# Altium integrated library Molex FFC - FPC Connectors (SMT).IntLib: 638 symbols (part 16 of 20)
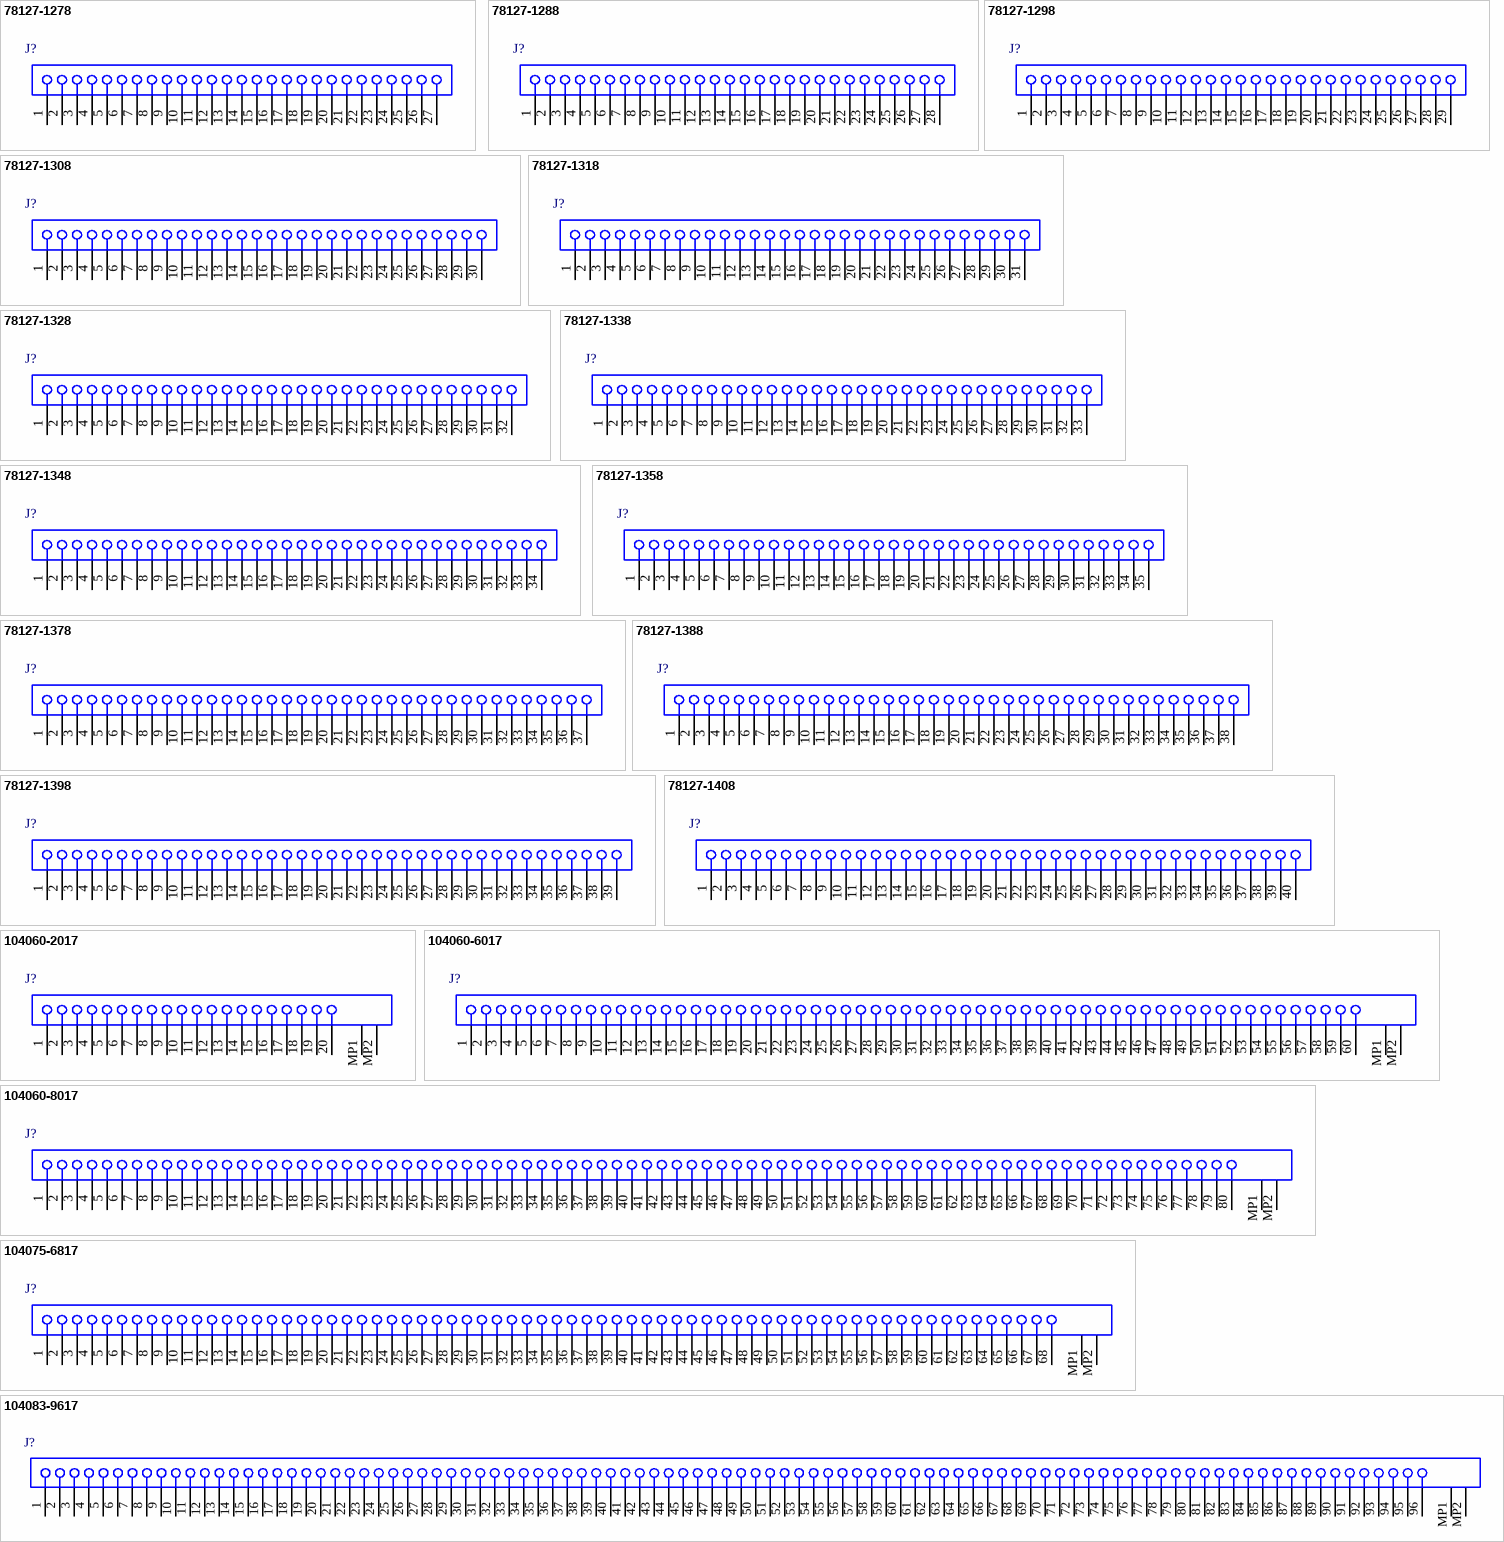
[diagram p36: symbols 78127-1278 to 104083-9617]

## 104083-9617
designator J?
0.5 mm Pitch Easy-On(TM) Type FPC/FFC Connector, 1.5 mm Mated Height, Right Angle, ZIF, SMT, Bottom Contact, 96 Circuits, -25 to 85 degC, ELV and RoHS Compliant, Tape and Reel; Manufacturer: Molex; PartNumber: 104083-9617; Circuits (Loaded): 96; Contact Position: Top; Current (Max per Contact): 0.5A; Entry Angle: 90degrees Angle (Side Entry); Mated Height: 1.50mm; Material - Metal: Phosphor Bronze; Material - Plating Mating: Gold over Nickel; PCB Retention: None; Pitch - Mating Interface: 0.50mm; Polarized to PCB: No; Voltage (Max): 50V; PackageVersion: Rev. A, 04/2012; PackageReference: 104083-9617; PackageDescription: 96-Lead FPC/FFC Connector, Pitch 0.5 mm; Circuits (maximum): 96; Number of Rows: 1; Orientation: Right Angle; Packing: Tape and Reel; RoHS: TRUE; Stackable: No; Mounting Technology: Surface Mount; ComponentLink1Description: Manufacturer URL; ComponentLink1URL: http://www.molex.com/molex/index.jsp; ComponentLink2Description: Datasheet; ComponentLink2URL: http://www.molex.com/webdocs/datasheets/pdf/en-us/1040839617_FFC_FPC_CONNECTORS.pdf; ComponentLink3Description: Package Specification; ComponentLink3URL: http://www.molex.com/pdm_docs/sd/1040839617_sd.pdf
footprint MOLX-104083-9617 (FPC/FFC Connector, 96-Leads, Right Angle, Pitch 0.5 mm, Mated Height 1.5 mm, SMT)
pins: 1, 2, 3, 4, 5, 6, 7, 8, 9, 10, 11, 12, 13, 14, 15, 16, 17, 18, 19, 20, 21, 22, 23, 24, 25, 26, 27, 28, 29, 30, 31, 32, 33, 34, 35, 36, 37, 38, 39, 40, 41, 42, 43, 44, 45, 46, 47, 48, 49, 50, 51, 52, 53, 54, 55, 56, 57, 58, 59, 60, 61, 62, 63, 64, 65, 66, 67, 68, 69, 70, 71, 72, 73, 74, 75, 76, 77, 78, 79, 80, 81, 82, 83, 84, 85, 86, 87, 88, 89, 90, 91, 92, 93, 94, 95, 96, MP1, MP2

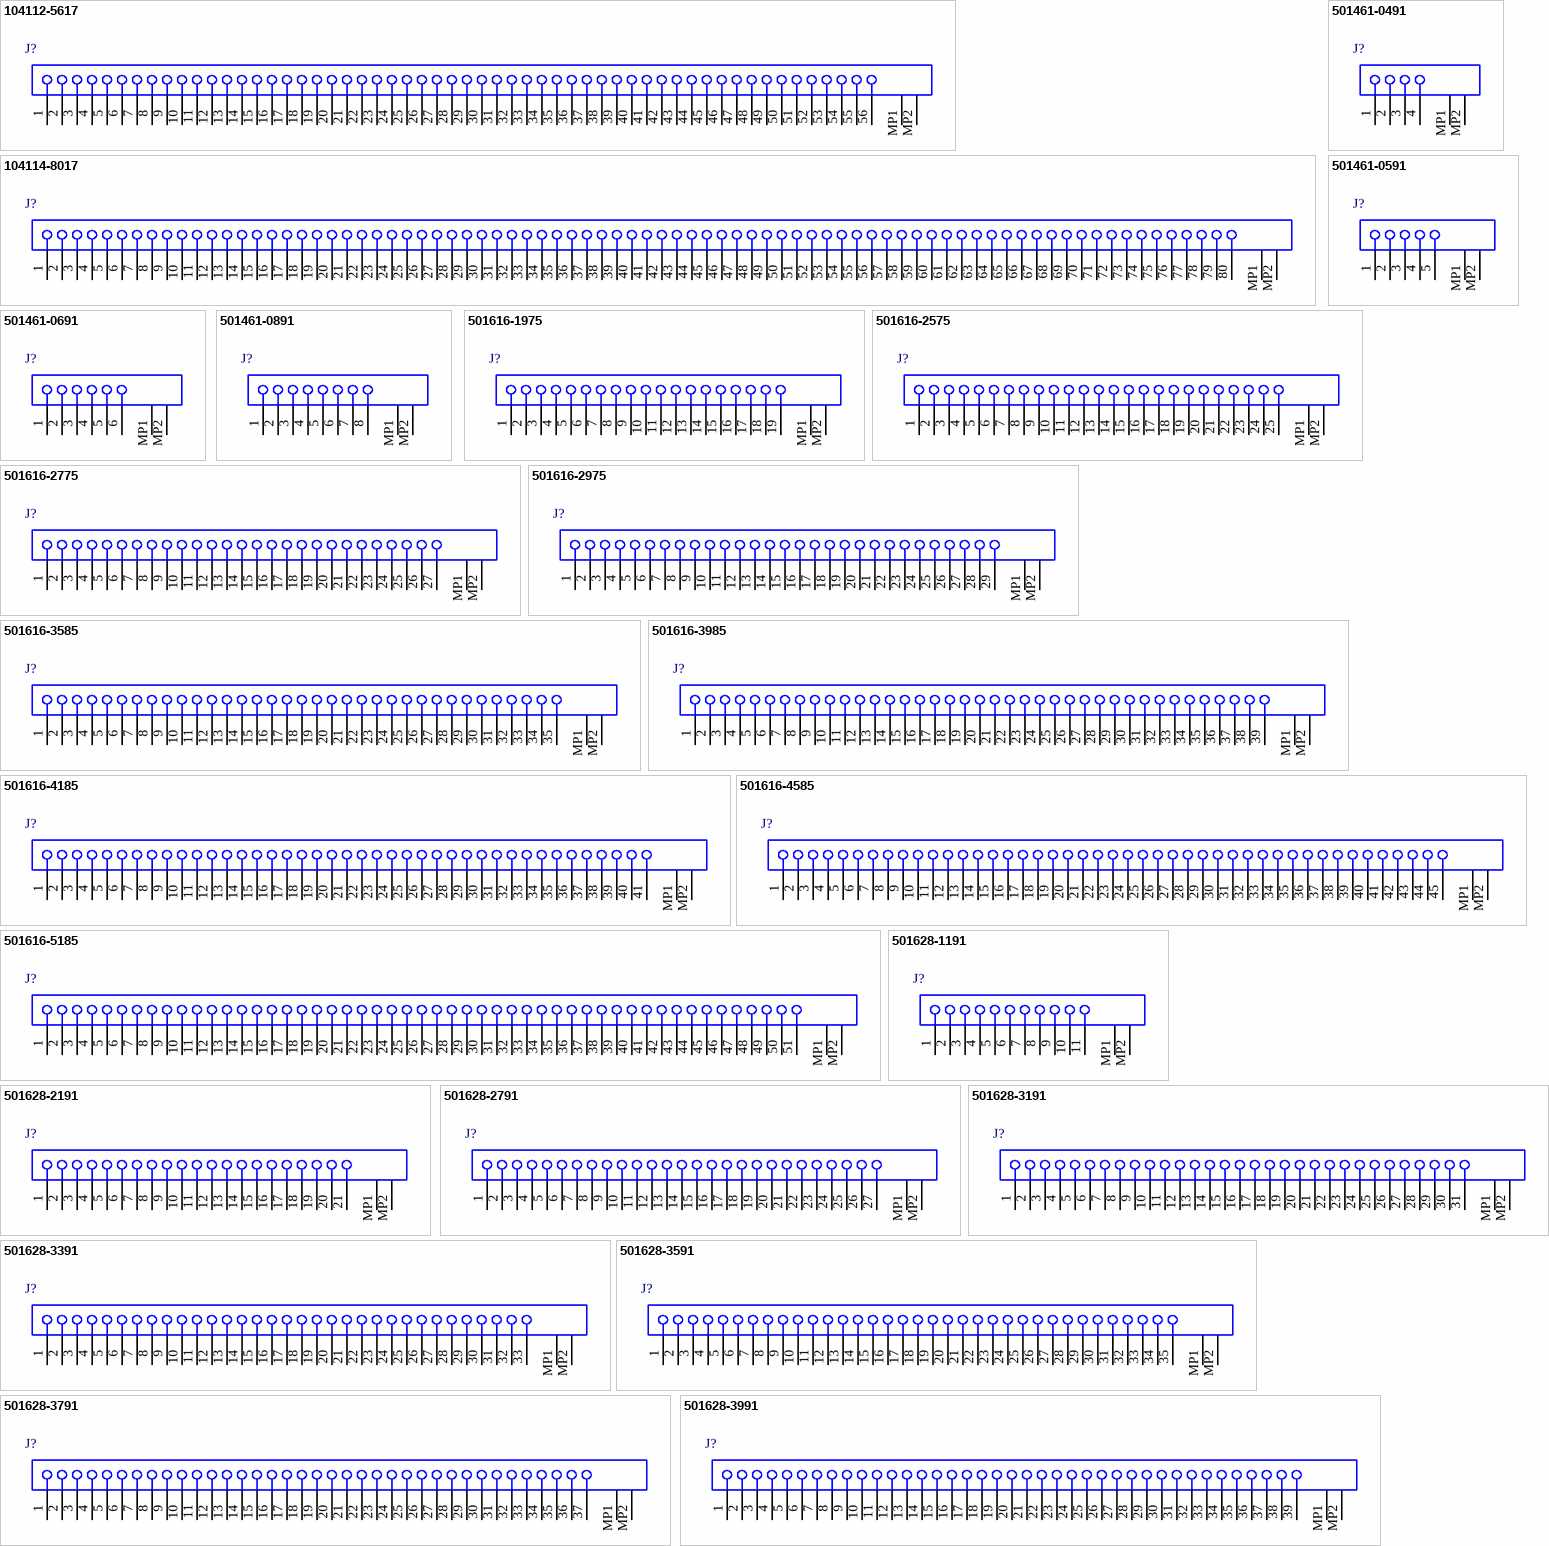
[diagram p15: symbols 104112-5617 to 501628-3991]

## 104112-5617
designator J?
0.5 mm Pitch Easy-On(TM) Type FPC/FFC Connector, 1.5 mm Mated Height, Right Angle, ZIF, SMT, Bottom Contact, 56 Circuits, -25 to 85 degC, ELV and RoHS Compliant, Tape and Reel; Manufacturer: Molex; PartNumber: 104112-5617; Circuits (Loaded): 56; Contact Position: Top; Current (Max per Contact): 0.5A; Entry Angle: 90degrees Angle (Side Entry); Mated Height: 1.50mm; Material - Metal: Phosphor Bronze; Material - Plating Mating: Gold over Nickel; PCB Retention: None; Pitch - Mating Interface: 0.50mm; Polarized to PCB: No; Voltage (Max): 50V; PackageVersion: Rev. A, 08/2012; PackageReference: 104112-5617; PackageDescription: 56-Lead FPC/FFC Connector, Pitch 0.5 mm; Circuits (maximum): 56; Number of Rows: 1; Orientation: Right Angle; Packing: Tape and Reel; RoHS: TRUE; Stackable: No; Mounting Technology: Surface Mount; ComponentLink1Description: Manufacturer URL; ComponentLink1URL: http://www.molex.com/molex/index.jsp; ComponentLink2Description: Datasheet; ComponentLink2URL: http://www.molex.com/webdocs/datasheets/pdf/en-us/1041125617_FFC_FPC_CONNECTORS.pdf; ComponentLink3Description: Package Specification; ComponentLink3URL: http://www.molex.com/pdm_docs/sd/1041125617_sd.pdf
footprint MOLX-104112-5617 (FPC/FFC Connector, 56-Leads, Right Angle, Pitch 0.5 mm, Mated Height 1.5 mm, SMT)
pins: 1, 2, 3, 4, 5, 6, 7, 8, 9, 10, 11, 12, 13, 14, 15, 16, 17, 18, 19, 20, 21, 22, 23, 24, 25, 26, 27, 28, 29, 30, 31, 32, 33, 34, 35, 36, 37, 38, 39, 40, 41, 42, 43, 44, 45, 46, 47, 48, 49, 50, 51, 52, 53, 54, 55, 56, MP1, MP2

## 104114-8017
designator J?
0.5 mm Pitch Easy-On(TM) Type FPC/FFC Connector, 1.5 mm Mated Height, Right Angle, ZIF, SMT, Bottom Contact, 80 Circuits, -25 to 85 degC, ELV and RoHS Compliant, Tape and Reel; Manufacturer: Molex; PartNumber: 104114-8017; Circuits (Loaded): 80; Contact Position: Top; Current (Max per Contact): 0.5A; Entry Angle: 90degrees Angle (Side Entry); Mated Height: 1.50mm; Material - Metal: Phosphor Bronze; Material - Plating Mating: Gold over Nickel; PCB Retention: None; Pitch - Mating Interface: 0.50mm; Polarized to PCB: No; Voltage (Max): 50V; PackageVersion: Rev. A, 12/2011; PackageReference: 104114-8017; PackageDescription: 80-Lead FPC/FFC Connector, Pitch 0.5 mm; Circuits (maximum): 80; Number of Rows: 1; Orientation: Right Angle; Packing: Tape and Reel; RoHS: TRUE; Stackable: No; Mounting Technology: Surface Mount; ComponentLink1Description: Manufacturer URL; ComponentLink1URL: http://www.molex.com/molex/index.jsp; ComponentLink2Description: Datasheet; ComponentLink2URL: http://www.molex.com/webdocs/datasheets/pdf/en-us/1041148017_FFC_FPC_CONNECTORS.pdf; ComponentLink3Description: Package Specification; ComponentLink3URL: http://www.molex.com/pdm_docs/sd/1041148017_sd.pdf
footprint MOLX-104114-8017 (FPC/FFC Connector, 80-Leads, Right Angle, Pitch 0.5 mm, Mated Height 1.5 mm, SMT)
pins: 1, 2, 3, 4, 5, 6, 7, 8, 9, 10, 11, 12, 13, 14, 15, 16, 17, 18, 19, 20, 21, 22, 23, 24, 25, 26, 27, 28, 29, 30, 31, 32, 33, 34, 35, 36, 37, 38, 39, 40, 41, 42, 43, 44, 45, 46, 47, 48, 49, 50, 51, 52, 53, 54, 55, 56, 57, 58, 59, 60, 61, 62, 63, 64, 65, 66, 67, 68, 69, 70, 71, 72, 73, 74, 75, 76, 77, 78, 79, 80, MP1, MP2

## 501461-0491
designator J?
0.5 mm Pitch Easy-On(TM) Type FPC Connector, 0.8 mm Mated Height, Right Angle, SMT, Bottom Contact, 4 Circuits, -40 to 85 degC, ELV and RoHS Compliant, Tape and Reel; Manufacturer: Molex; PartNumber: 501461-0491; Circuits (Loaded): 4; Current (Max per Contact): 0.3A; Durability (mating cycles max): 20; Entry Angle: 90degrees Angle; Mated Height: 0.80mm; Material - Metal: Copper Alloy; Material - Plating Mating: Gold; PCB Locator: No; PCB Retention: Yes; Pitch - Mating Interface: 0.50mm; Voltage (Max): 50V AC (RMS)/DC; PackageVersion: Rev. B, 01/2014; PackageReference: 501461-0491; PackageDescription: 4-Lead FPC Connector, Pitch 0.5 mm; Contact Position: Bottom; Material - Plating Termination: Gold; Number of Rows: 1; Orientation: Right Angle; Packing: Tape and Reel; Polarized to PCB: Yes; RoHS: TRUE; Stackable: No; Mounting Technology: Surface Mount; ComponentLink1Description: Manufacturer URL; ComponentLink1URL: http://www.molex.com/molex/index.jsp; ComponentLink2Description: Datasheet; ComponentLink2URL: http://www.molex.com/webdocs/datasheets/pdf/en-us/5014610491_FFC_FPC_CONNECTORS.pdf; ComponentLink3Description: Package Specification; ComponentLink3URL: http://www.molex.com/pdm_docs/sd/5014610491_sd.pdf
footprint MOLX-501461-0491 (FPC Connector, 4-Leads, Right Angle, Pitch 0.5 mm, Mated Height 0.8 mm, SMT)
pins: 1, 2, 3, 4, MP1, MP2

## 501461-0591
designator J?
0.5 mm Pitch Easy-On(TM) Type FPC Connector, 0.8 mm Mated Height, Right Angle, SMT, Bottom Contact, 5 Circuits, -40 to 85 degC, ELV and RoHS Compliant, Tape and Reel; Manufacturer: Molex; PartNumber: 501461-0591; Circuits (Loaded): 5; Current (Max per Contact): 0.3A; Durability (mating cycles max): 20; Entry Angle: 90degrees Angle; Mated Height: 0.80mm; Material - Metal: Copper Alloy; Material - Plating Mating: Gold; PCB Locator: No; PCB Retention: Yes; Pitch - Mating Interface: 0.50mm; Voltage (Max): 50V AC (RMS)/DC; PackageVersion: Rev. B, 01/2014; PackageReference: 501461-0591; PackageDescription: 5-Lead FPC Connector, Pitch 0.5 mm; Contact Position: Bottom; Material - Plating Termination: Gold; Number of Rows: 1; Orientation: Right Angle; Packing: Tape and Reel; Polarized to PCB: Yes; RoHS: TRUE; Stackable: No; Mounting Technology: Surface Mount; ComponentLink1Description: Manufacturer URL; ComponentLink1URL: http://www.molex.com/molex/index.jsp; ComponentLink2Description: Datasheet; ComponentLink2URL: http://www.molex.com/webdocs/datasheets/pdf/en-us/5014610591_FFC_FPC_CONNECTORS.pdf; ComponentLink3Description: Package Specification; ComponentLink3URL: http://www.molex.com/pdm_docs/sd/5014610591_sd.pdf
footprint MOLX-501461-0591 (FPC Connector, 5-Leads, Right Angle, Pitch 0.5 mm, Mated Height 0.8 mm, SMT)
pins: 1, 2, 3, 4, 5, MP1, MP2

## 501461-0691
designator J?
0.5 mm Pitch Easy-On(TM) Type FPC Connector, 0.8 mm Mated Height, Right Angle, SMT, Bottom Contact, 6 Circuits, -40 to 85 degC, ELV and RoHS Compliant, Tape and Reel; Manufacturer: Molex; PartNumber: 501461-0691; Circuits (Loaded): 6; Current (Max per Contact): 0.3A; Durability (mating cycles max): 20; Entry Angle: 90degrees Angle; Mated Height: 0.80mm; Material - Metal: Copper Alloy; Material - Plating Mating: Gold; PCB Locator: No; PCB Retention: Yes; Pitch - Mating Interface: 0.50mm; Voltage (Max): 50V AC (RMS)/DC; PackageVersion: Rev. B, 01/2014; PackageReference: 501461-0691; PackageDescription: 6-Lead FPC Connector, Pitch 0.5 mm; Contact Position: Bottom; Material - Plating Termination: Gold; Number of Rows: 1; Orientation: Right Angle; Packing: Tape and Reel; Polarized to PCB: Yes; RoHS: TRUE; Stackable: No; Mounting Technology: Surface Mount; ComponentLink1Description: Manufacturer URL; ComponentLink1URL: http://www.molex.com/molex/index.jsp; ComponentLink2Description: Datasheet; ComponentLink2URL: http://www.molex.com/webdocs/datasheets/pdf/en-us/5014610691_FFC_FPC_CONNECTORS.pdf; ComponentLink3Description: Package Specification; ComponentLink3URL: http://www.molex.com/pdm_docs/sd/5014610691_sd.pdf
footprint MOLX-501461-0691 (FPC Connector, 6-Leads, Right Angle, Pitch 0.5 mm, Mated Height 0.8 mm, SMT)
pins: 1, 2, 3, 4, 5, 6, MP1, MP2

## 501461-0891
designator J?
0.5 mm Pitch Easy-On(TM) Type FPC Connector, 0.8 mm Mated Height, Right Angle, SMT, Bottom Contact, 8 Circuits, -40 to 85 degC, ELV and RoHS Compliant, Tape and Reel; Manufacturer: Molex; PartNumber: 501461-0891; Circuits (Loaded): 8; Current (Max per Contact): 0.3A; Durability (mating cycles max): 20; Entry Angle: 90degrees Angle; Mated Height: 0.80mm; Material - Metal: Copper Alloy; Material - Plating Mating: Gold; PCB Locator: No; PCB Retention: Yes; Pitch - Mating Interface: 0.50mm; Voltage (Max): 50V AC (RMS)/DC; PackageVersion: Rev. B, 01/2014; PackageReference: 501461-0891; PackageDescription: 8-Lead FPC Connector, Pitch 0.5 mm; Contact Position: Bottom; Material - Plating Termination: Gold; Number of Rows: 1; Orientation: Right Angle; Packing: Tape and Reel; Polarized to PCB: Yes; RoHS: TRUE; Stackable: No; Mounting Technology: Surface Mount; ComponentLink1Description: Manufacturer URL; ComponentLink1URL: http://www.molex.com/molex/index.jsp; ComponentLink2Description: Datasheet; ComponentLink2URL: http://www.molex.com/webdocs/datasheets/pdf/en-us/5014610891_FFC_FPC_CONNECTORS.pdf; ComponentLink3Description: Package Specification; ComponentLink3URL: http://www.molex.com/pdm_docs/sd/5014610891_sd.pdf
footprint MOLX-501461-0891 (FPC Connector, 8-Leads, Right Angle, Pitch 0.5 mm, Mated Height 0.8 mm, SMT)
pins: 1, 2, 3, 4, 5, 6, 7, 8, MP1, MP2

## 501616-1975
designator J?
0.3 mm Pitch Easy-On(TM) Type FPC Connector, 1.1 mm Mated Height, Right Angle, ZIF, SMT, Top Contact, 19 Circuits, -40 to 85 degC, ELV and RoHS Compliant, Tape and Reel; Manufacturer: Molex; PartNumber: 501616-1975; Circuits (Loaded): 19; Current (Max per Contact): 0.2A; Durability (mating cycles max): 10; Entry Angle: 90degrees Angle; Mated Height: 1.10mm; Material - Metal: Copper Alloy; Material - Plating Mating: Gold; PCB Locator: No; PCB Retention: Yes; Pitch - Mating Interface: 0.30mm; Voltage (Max): 50V AC (RMS)/DC; PackageVersion: Rev. 0, 05/2007; PackageReference: 501616-1975; PackageDescription: 19-Lead FPC Connector, Pitch 0.3 mm; Contact Position: Top; Number of Rows: 1; Orientation: Right Angle; Packing: Tape and Reel; Polarized to PCB: Yes; RoHS: TRUE; Stackable: No; Mounting Technology: Surface Mount; ComponentLink1Description: Manufacturer URL; ComponentLink1URL: http://www.molex.com/molex/index.jsp; ComponentLink2Description: Datasheet; ComponentLink2URL: http://www.molex.com/webdocs/datasheets/pdf/en-us/5016161975_FFC_FPC_CONNECTORS.pdf; ComponentLink3Description: Package Specification; ComponentLink3URL: http://www.molex.com/pdm_docs/sd/5016161975_sd.pdf
footprint MOLX-501616-1975 (FPC Connector, 19-Leads, Right Angle, Pitch 0.3 mm, Mated Height 1.1 mm, SMT)
pins: 1, 2, 3, 4, 5, 6, 7, 8, 9, 10, 11, 12, 13, 14, 15, 16, 17, 18, 19, MP1, MP2

## 501616-2575
designator J?
0.3 mm Pitch Easy-On(TM) Type FPC Connector, 1.1 mm Mated Height, Right Angle, ZIF, SMT, Top Contact, 25 Circuits, -40 to 85 degC, ELV and RoHS Compliant, Tape and Reel; Manufacturer: Molex; PartNumber: 501616-2575; Circuits (Loaded): 25; Current (Max per Contact): 0.2A; Durability (mating cycles max): 10; Entry Angle: 90degrees Angle; Mated Height: 1.10mm; Material - Metal: Copper Alloy; Material - Plating Mating: Gold; PCB Locator: No; PCB Retention: Yes; Pitch - Mating Interface: 0.30mm; Voltage (Max): 50V AC (RMS)/DC; PackageVersion: Rev. 0, 05/2007; PackageReference: 501616-2575; PackageDescription: 25-Lead FPC Connector, Pitch 0.3 mm; Contact Position: Top; Number of Rows: 1; Orientation: Right Angle; Packing: Tape and Reel; Polarized to PCB: Yes; RoHS: TRUE; Stackable: No; Mounting Technology: Surface Mount; ComponentLink1Description: Manufacturer URL; ComponentLink1URL: http://www.molex.com/molex/index.jsp; ComponentLink2Description: Datasheet; ComponentLink2URL: http://www.molex.com/webdocs/datasheets/pdf/en-us/5016162575_FFC_FPC_CONNECTORS.pdf; ComponentLink3Description: Package Specification; ComponentLink3URL: http://www.molex.com/pdm_docs/sd/5016162575_sd.pdf
footprint MOLX-501616-2575 (FPC Connector, 25-Leads, Right Angle, Pitch 0.3 mm, Mated Height 1.1 mm, SMT)
pins: 1, 2, 3, 4, 5, 6, 7, 8, 9, 10, 11, 12, 13, 14, 15, 16, 17, 18, 19, 20, 21, 22, 23, 24, 25, MP1, MP2

## 501616-2775
designator J?
0.3 mm Pitch Easy-On(TM) Type FPC Connector, 1.1 mm Mated Height, Right Angle, ZIF, SMT, Top Contact, 27 Circuits, -40 to 85 degC, ELV and RoHS Compliant, Tape and Reel; Manufacturer: Molex; PartNumber: 501616-2775; Circuits (Loaded): 27; Current (Max per Contact): 0.2A; Durability (mating cycles max): 10; Entry Angle: 90degrees Angle; Mated Height: 1.10mm; Material - Metal: Copper Alloy; Material - Plating Mating: Gold; PCB Locator: No; PCB Retention: Yes; Pitch - Mating Interface: 0.30mm; Voltage (Max): 50V AC (RMS)/DC; PackageVersion: Rev. 0, 05/2007; PackageReference: 501616-2775; PackageDescription: 27-Lead FPC Connector, Pitch 0.3 mm; Contact Position: Top; Number of Rows: 1; Orientation: Right Angle; Packing: Tape and Reel; Polarized to PCB: Yes; RoHS: TRUE; Stackable: No; Mounting Technology: Surface Mount; ComponentLink1Description: Manufacturer URL; ComponentLink1URL: http://www.molex.com/molex/index.jsp; ComponentLink2Description: Datasheet; ComponentLink2URL: http://www.molex.com/webdocs/datasheets/pdf/en-us/5016162775_FFC_FPC_CONNECTORS.pdf; ComponentLink3Description: Package Specification; ComponentLink3URL: http://www.molex.com/pdm_docs/sd/5016162775_sd.pdf
footprint MOLX-501616-2775 (FPC Connector, 27-Leads, Right Angle, Pitch 0.3 mm, Mated Height 1.1 mm, SMT)
pins: 1, 2, 3, 4, 5, 6, 7, 8, 9, 10, 11, 12, 13, 14, 15, 16, 17, 18, 19, 20, 21, 22, 23, 24, 25, 26, 27, MP1, MP2

## 501616-2975
designator J?
0.3 mm Pitch Easy-On(TM) Type FPC Connector, 1.1 mm Mated Height, Right Angle, ZIF, SMT, Top Contact, 29 Circuits, -40 to 85 degC, ELV and RoHS Compliant, Tape and Reel; Manufacturer: Molex; PartNumber: 501616-2975; Circuits (Loaded): 29; Current (Max per Contact): 0.2A; Durability (mating cycles max): 10; Entry Angle: 90degrees Angle; Mated Height: 1.10mm; Material - Metal: Copper Alloy; Material - Plating Mating: Gold; PCB Locator: No; PCB Retention: Yes; Pitch - Mating Interface: 0.30mm; Voltage (Max): 50V AC (RMS)/DC; PackageVersion: Rev. 0, 05/2007; PackageReference: 501616-2975; PackageDescription: 29-Lead FPC Connector, Pitch 0.3 mm; Contact Position: Top; Number of Rows: 1; Orientation: Right Angle; Packing: Tape and Reel; Polarized to PCB: Yes; RoHS: TRUE; Stackable: No; Mounting Technology: Surface Mount; ComponentLink1Description: Manufacturer URL; ComponentLink1URL: http://www.molex.com/molex/index.jsp; ComponentLink2Description: Datasheet; ComponentLink2URL: http://www.molex.com/webdocs/datasheets/pdf/en-us/5016162975_FFC_FPC_CONNECTORS.pdf; ComponentLink3Description: Package Specification; ComponentLink3URL: http://www.molex.com/pdm_docs/sd/5016162975_sd.pdf
footprint MOLX-501616-2975 (FPC Connector, 29-Leads, Right Angle, Pitch 0.3 mm, Mated Height 1.1 mm, SMT)
pins: 1, 2, 3, 4, 5, 6, 7, 8, 9, 10, 11, 12, 13, 14, 15, 16, 17, 18, 19, 20, 21, 22, 23, 24, 25, 26, 27, 28, 29, MP1, MP2

## 501616-3585
designator J?
0.3 mm Pitch Easy-On(TM) Type FPC Connector, 1.1 mm Mated Height, Right Angle, ZIF, SMT, Top Contact, 35 Circuits, -40 to 85 degC, ELV and RoHS Compliant, Tape and Reel; Manufacturer: Molex; PartNumber: 501616-3585; Circuits (Loaded): 35; Current (Max per Contact): 0.2A; Durability (mating cycles max): 10; Entry Angle: 90degrees Angle; Mated Height: 1.10mm; Material - Metal: Copper Alloy; Material - Plating Mating: Gold; PCB Locator: No; PCB Retention: Yes; Pitch - Mating Interface: 0.30mm; Voltage (Max): 50V AC (RMS)/DC; PackageVersion: Rev. B, 11/2008; PackageReference: 501616-3585; PackageDescription: 35-Lead FPC Connector, Pitch 0.3 mm; Contact Position: Top; Number of Rows: 1; Orientation: Right Angle; Packing: Tape and Reel; Polarized to PCB: Yes; RoHS: TRUE; Stackable: No; Mounting Technology: Surface Mount; ComponentLink1Description: Manufacturer URL; ComponentLink1URL: http://www.molex.com/molex/index.jsp; ComponentLink2Description: Datasheet; ComponentLink2URL: http://www.molex.com/webdocs/datasheets/pdf/en-us/5016163585_FFC_FPC_CONNECTORS.pdf; ComponentLink3Description: Package Specification; ComponentLink3URL: http://www.molex.com/pdm_docs/sd/5016163585_sd.pdf
footprint MOLX-501616-3585 (FPC Connector, 35-Leads, Right Angle, Pitch 0.3 mm, Mated Height 1.1 mm, SMT)
pins: 1, 2, 3, 4, 5, 6, 7, 8, 9, 10, 11, 12, 13, 14, 15, 16, 17, 18, 19, 20, 21, 22, 23, 24, 25, 26, 27, 28, 29, 30, 31, 32, 33, 34, 35, MP1, MP2

## 501616-3985
designator J?
0.3 mm Pitch Easy-On(TM) Type FPC Connector, 1.1 mm Mated Height, Right Angle, ZIF, SMT, Top Contact, 39 Circuits, -40 to 85 degC, ELV and RoHS Compliant, Tape and Reel; Manufacturer: Molex; PartNumber: 501616-3985; Circuits (Loaded): 39; Current (Max per Contact): 0.2A; Durability (mating cycles max): 10; Entry Angle: 90degrees Angle; Mated Height: 1.10mm; Material - Metal: Copper Alloy; Material - Plating Mating: Gold; PCB Locator: No; PCB Retention: Yes; Pitch - Mating Interface: 0.30mm; Voltage (Max): 50V AC (RMS)/DC; PackageVersion: Rev. B, 11/2008; PackageReference: 501616-3985; PackageDescription: 39-Lead FPC Connector, Pitch 0.3 mm; Contact Position: Top; Number of Rows: 1; Orientation: Right Angle; Packing: Tape and Reel; Polarized to PCB: Yes; RoHS: TRUE; Stackable: No; Mounting Technology: Surface Mount; ComponentLink1Description: Manufacturer URL; ComponentLink1URL: http://www.molex.com/molex/index.jsp; ComponentLink2Description: Datasheet; ComponentLink2URL: http://www.molex.com/webdocs/datasheets/pdf/en-us/5016163985_FFC_FPC_CONNECTORS.pdf; ComponentLink3Description: Package Specification; ComponentLink3URL: http://www.molex.com/pdm_docs/sd/5016163985_sd.pdf
footprint MOLX-501616-3985 (FPC Connector, 39-Leads, Right Angle, Pitch 0.3 mm, Mated Height 1.1 mm, SMT)
pins: 1, 2, 3, 4, 5, 6, 7, 8, 9, 10, 11, 12, 13, 14, 15, 16, 17, 18, 19, 20, 21, 22, 23, 24, 25, 26, 27, 28, 29, 30, 31, 32, 33, 34, 35, 36, 37, 38, 39, MP1, MP2

## 501616-4185
designator J?
0.3 mm Pitch Easy-On(TM) Type FPC Connector, 1.1 mm Mated Height, Right Angle, ZIF, SMT, Top Contact, 41 Circuits, -40 to 85 degC, ELV and RoHS Compliant, Tape and Reel; Manufacturer: Molex; PartNumber: 501616-4185; Circuits (Loaded): 41; Current (Max per Contact): 0.2A; Durability (mating cycles max): 10; Entry Angle: 90degrees Angle; Mated Height: 1.10mm; Material - Metal: Copper Alloy; Material - Plating Mating: Gold; PCB Locator: No; PCB Retention: Yes; Pitch - Mating Interface: 0.30mm; Voltage (Max): 50V AC (RMS)/DC; PackageVersion: Rev. B, 11/2008; PackageReference: 501616-4185; PackageDescription: 41-Lead FPC Connector, Pitch 0.3 mm; Contact Position: Top; Number of Rows: 1; Orientation: Right Angle; Packing: Tape and Reel; Polarized to PCB: Yes; RoHS: TRUE; Stackable: No; Mounting Technology: Surface Mount; ComponentLink1Description: Manufacturer URL; ComponentLink1URL: http://www.molex.com/molex/index.jsp; ComponentLink2Description: Datasheet; ComponentLink2URL: http://www.molex.com/webdocs/datasheets/pdf/en-us/5016164185_FFC_FPC_CONNECTORS.pdf; ComponentLink3Description: Package Specification; ComponentLink3URL: http://www.molex.com/pdm_docs/sd/5016164185_sd.pdf
footprint MOLX-501616-4185 (FPC Connector, 41-Leads, Right Angle, Pitch 0.3 mm, Mated Height 1.1 mm, SMT)
pins: 1, 2, 3, 4, 5, 6, 7, 8, 9, 10, 11, 12, 13, 14, 15, 16, 17, 18, 19, 20, 21, 22, 23, 24, 25, 26, 27, 28, 29, 30, 31, 32, 33, 34, 35, 36, 37, 38, 39, 40, 41, MP1, MP2

## 501616-4585
designator J?
0.3 mm Pitch Easy-On(TM) Type FPC Connector, 1.1 mm Mated Height, Right Angle, ZIF, SMT, Top Contact, 45 Circuits, -40 to 85 degC, ELV and RoHS Compliant, Tape and Reel; Manufacturer: Molex; PartNumber: 501616-4585; Circuits (Loaded): 45; Current (Max per Contact): 0.2A; Durability (mating cycles max): 10; Entry Angle: 90degrees Angle; Mated Height: 1.10mm; Material - Metal: Copper Alloy; Material - Plating Mating: Gold; PCB Locator: No; PCB Retention: Yes; Pitch - Mating Interface: 0.30mm; Voltage (Max): 50V AC (RMS)/DC; PackageVersion: Rev. B, 11/2008; PackageReference: 501616-4585; PackageDescription: 45-Lead FPC Connector, Pitch 0.3 mm; Contact Position: Top; Number of Rows: 1; Orientation: Right Angle; Packing: Tape and Reel; Polarized to PCB: Yes; RoHS: TRUE; Stackable: No; Mounting Technology: Surface Mount; ComponentLink1Description: Manufacturer URL; ComponentLink1URL: http://www.molex.com/molex/index.jsp; ComponentLink2Description: Datasheet; ComponentLink2URL: http://www.molex.com/webdocs/datasheets/pdf/en-us/5016164585_FFC_FPC_CONNECTORS.pdf; ComponentLink3Description: Package Specification; ComponentLink3URL: http://www.molex.com/pdm_docs/sd/5016164585_sd.pdf
footprint MOLX-501616-4585 (FPC Connector, 45-Leads, Right Angle, Pitch 0.3 mm, Mated Height 1.1 mm, SMT)
pins: 1, 2, 3, 4, 5, 6, 7, 8, 9, 10, 11, 12, 13, 14, 15, 16, 17, 18, 19, 20, 21, 22, 23, 24, 25, 26, 27, 28, 29, 30, 31, 32, 33, 34, 35, 36, 37, 38, 39, 40, 41, 42, 43, 44, 45, MP1, MP2

## 501616-5185
designator J?
0.3 mm Pitch Easy-On(TM) Type FPC Connector, 1.1 mm Mated Height, Right Angle, ZIF, SMT, Top Contact, 51 Circuits, -40 to 85 degC, ELV and RoHS Compliant, Tape and Reel; Manufacturer: Molex; PartNumber: 501616-5185; Circuits (Loaded): 51; Current (Max per Contact): 0.2A; Durability (mating cycles max): 10; Entry Angle: 90degrees Angle; Mated Height: 1.10mm; Material - Metal: Copper Alloy; Material - Plating Mating: Gold; PCB Locator: No; PCB Retention: Yes; Pitch - Mating Interface: 0.30mm; Voltage (Max): 50V AC (RMS)/DC; PackageVersion: Rev. B, 11/2008; PackageReference: 501616-5185; PackageDescription: 51-Lead FPC Connector, Pitch 0.3 mm; Contact Position: Top; Number of Rows: 1; Orientation: Right Angle; Packing: Tape and Reel; Polarized to PCB: Yes; RoHS: TRUE; Stackable: No; Mounting Technology: Surface Mount; ComponentLink1Description: Manufacturer URL; ComponentLink1URL: http://www.molex.com/molex/index.jsp; ComponentLink2Description: Datasheet; ComponentLink2URL: http://www.molex.com/webdocs/datasheets/pdf/en-us/5016165185_FFC_FPC_CONNECTORS.pdf; ComponentLink3Description: Package Specification; ComponentLink3URL: http://www.molex.com/pdm_docs/sd/5016165185_sd.pdf
footprint MOLX-501616-5185 (FPC Connector, 51-Leads, Right Angle, Pitch 0.3 mm, Mated Height 1.1 mm, SMT)
pins: 1, 2, 3, 4, 5, 6, 7, 8, 9, 10, 11, 12, 13, 14, 15, 16, 17, 18, 19, 20, 21, 22, 23, 24, 25, 26, 27, 28, 29, 30, 31, 32, 33, 34, 35, 36, 37, 38, 39, 40, 41, 42, 43, 44, 45, 46, 47, 48, 49, 50, 51, MP1, MP2

## 501628-1191
designator J?
0.3 mm Pitch Easy-On(TM) Type FPC Connector, 0.9 mm Mated Height, Right Angle, SMT, Bottom Contact, 11 Circuits, -25 to 85 degC, ELV and RoHS Compliant, Tape and Reel; Manufacturer: Molex; PartNumber: 501628-1191; Circuits (Loaded): 11; Current (Max per Contact): 0.2A; Durability (mating cycles max): 10; Entry Angle: 90degrees Angle; Mated Height: 0.90mm; Material - Metal: Copper Alloy; Material - Plating Mating: Gold; PCB Locator: No; PCB Retention: Yes; Pitch - Mating Interface: 0.30mm; Voltage (Max): 50V; PackageVersion: Rev. L, 07/2009; PackageReference: 501628-1191; PackageDescription: 11-Lead FPC Connector, Pitch 0.3 mm; Contact Position: Bottom; Number of Rows: 1; Orientation: Right Angle; Packing: Tape and Reel; Polarized to PCB: Yes; RoHS: TRUE; Stackable: No; Mounting Technology: Surface Mount; ComponentLink1Description: Manufacturer URL; ComponentLink1URL: http://www.molex.com/molex/index.jsp; ComponentLink2Description: Datasheet; ComponentLink2URL: http://www.molex.com/webdocs/datasheets/pdf/en-us/5016281191_FFC_FPC_CONNECTORS.pdf; ComponentLink3Description: Package Specification; ComponentLink3URL: http://www.molex.com/pdm_docs/sd/5016281191_sd.pdf
footprint MOLX-501628-1191 (FPC Connector, 11-Leads, Right Angle, Pitch 0.3 mm, Mated Height 0.9 mm, SMT)
pins: 1, 2, 3, 4, 5, 6, 7, 8, 9, 10, 11, MP1, MP2

## 501628-2191
designator J?
0.3 mm Pitch Easy-On(TM) Type FPC Connector, 0.9 mm Mated Height, Right Angle, SMT, Bottom Contact, 21 Circuits, -25 to 85 degC, ELV and RoHS Compliant, Tape and Reel; Manufacturer: Molex; PartNumber: 501628-2191; Circuits (Loaded): 21; Current (Max per Contact): 0.2A; Durability (mating cycles max): 10; Entry Angle: 90degrees Angle; Mated Height: 0.90mm; Material - Metal: Copper Alloy; Material - Plating Mating: Gold; PCB Locator: No; PCB Retention: Yes; Pitch - Mating Interface: 0.30mm; Voltage (Max): 50V; PackageVersion: Rev. L, 07/2009; PackageReference: 501628-2191; PackageDescription: 21-Lead FPC Connector, Pitch 0.3 mm; Contact Position: Bottom; Number of Rows: 1; Orientation: Right Angle; Packing: Tape and Reel; Polarized to PCB: Yes; RoHS: TRUE; Stackable: No; Mounting Technology: Surface Mount; ComponentLink1Description: Manufacturer URL; ComponentLink1URL: http://www.molex.com/molex/index.jsp; ComponentLink2Description: Datasheet; ComponentLink2URL: http://www.molex.com/webdocs/datasheets/pdf/en-us/5016282191_FFC_FPC_CONNECTORS.pdf; ComponentLink3Description: Package Specification; ComponentLink3URL: http://www.molex.com/pdm_docs/sd/5016282191_sd.pdf
footprint MOLX-501628-2191 (FPC Connector, 21-Leads, Right Angle, Pitch 0.3 mm, Mated Height 0.9 mm, SMT)
pins: 1, 2, 3, 4, 5, 6, 7, 8, 9, 10, 11, 12, 13, 14, 15, 16, 17, 18, 19, 20, 21, MP1, MP2

## 501628-2791
designator J?
0.3 mm Pitch Easy-On(TM) Type FPC Connector, 0.9 mm Mated Height, Right Angle, SMT, Bottom Contact, 27 Circuits, -25 to 85 degC, ELV and RoHS Compliant, Tape and Reel; Manufacturer: Molex; PartNumber: 501628-2791; Circuits (Loaded): 27; Current (Max per Contact): 0.2A; Durability (mating cycles max): 10; Entry Angle: 90degrees Angle; Mated Height: 0.90mm; Material - Metal: Copper Alloy; Material - Plating Mating: Gold; PCB Locator: No; PCB Retention: Yes; Pitch - Mating Interface: 0.30mm; Voltage (Max): 50V; PackageVersion: Rev. L, 07/2009; PackageReference: 501628-2791; PackageDescription: 27-Lead FPC Connector, Pitch 0.3 mm; Contact Position: Bottom; Number of Rows: 1; Orientation: Right Angle; Packing: Tape and Reel; Polarized to PCB: Yes; RoHS: TRUE; Stackable: No; Mounting Technology: Surface Mount; ComponentLink1Description: Manufacturer URL; ComponentLink1URL: http://www.molex.com/molex/index.jsp; ComponentLink2Description: Datasheet; ComponentLink2URL: http://www.molex.com/webdocs/datasheets/pdf/en-us/5016282791_FFC_FPC_CONNECTORS.pdf; ComponentLink3Description: Package Specification; ComponentLink3URL: http://www.molex.com/pdm_docs/sd/5016282791_sd.pdf
footprint MOLX-501628-2791 (FPC Connector, 27-Leads, Right Angle, Pitch 0.3 mm, Mated Height 0.9 mm, SMT)
pins: 1, 2, 3, 4, 5, 6, 7, 8, 9, 10, 11, 12, 13, 14, 15, 16, 17, 18, 19, 20, 21, 22, 23, 24, 25, 26, 27, MP1, MP2

## 501628-3191
designator J?
0.3 mm Pitch Easy-On(TM) Type FPC Connector, 0.9 mm Mated Height, Right Angle, SMT, Bottom Contact, 31 Circuits, -25 to 85 degC, ELV and RoHS Compliant, Tape and Reel; Manufacturer: Molex; PartNumber: 501628-3191; Circuits (Loaded): 31; Current (Max per Contact): 0.2A; Durability (mating cycles max): 10; Entry Angle: 90degrees Angle; Mated Height: 0.90mm; Material - Metal: Copper Alloy; Material - Plating Mating: Gold; PCB Locator: No; PCB Retention: Yes; Pitch - Mating Interface: 0.30mm; Voltage (Max): 50V; PackageVersion: Rev. L, 07/2009; PackageReference: 501628-3191; PackageDescription: 31-Lead FPC Connector, Pitch 0.3 mm; Contact Position: Bottom; Number of Rows: 1; Orientation: Right Angle; Packing: Tape and Reel; Polarized to PCB: Yes; RoHS: TRUE; Stackable: No; Mounting Technology: Surface Mount; ComponentLink1Description: Manufacturer URL; ComponentLink1URL: http://www.molex.com/molex/index.jsp; ComponentLink2Description: Datasheet; ComponentLink2URL: http://www.molex.com/webdocs/datasheets/pdf/en-us/5016283191_FFC_FPC_CONNECTORS.pdf; ComponentLink3Description: Package Specification; ComponentLink3URL: http://www.molex.com/pdm_docs/sd/5016283191_sd.pdf
footprint MOLX-501628-3191 (FPC Connector, 31-Leads, Right Angle, Pitch 0.3 mm, Mated Height 0.9 mm, SMT)
pins: 1, 2, 3, 4, 5, 6, 7, 8, 9, 10, 11, 12, 13, 14, 15, 16, 17, 18, 19, 20, 21, 22, 23, 24, 25, 26, 27, 28, 29, 30, 31, MP1, MP2

## 501628-3391
designator J?
0.3 mm Pitch Easy-On(TM) Type FPC Connector, 0.9 mm Mated Height, Right Angle, SMT, Bottom Contact, 33 Circuits, -25 to 85 degC, ELV and RoHS Compliant, Tape and Reel; Manufacturer: Molex; PartNumber: 501628-3391; Circuits (Loaded): 33; Current (Max per Contact): 0.2A; Durability (mating cycles max): 10; Entry Angle: 90degrees Angle; Mated Height: 0.90mm; Material - Metal: Copper Alloy; Material - Plating Mating: Gold; PCB Locator: No; PCB Retention: Yes; Pitch - Mating Interface: 0.30mm; Voltage (Max): 50V; PackageVersion: Rev. L, 07/2009; PackageReference: 501628-3391; PackageDescription: 33-Lead FPC Connector, Pitch 0.3 mm; Contact Position: Bottom; Number of Rows: 1; Orientation: Right Angle; Packing: Tape and Reel; Polarized to PCB: Yes; RoHS: TRUE; Stackable: No; Mounting Technology: Surface Mount; ComponentLink1Description: Manufacturer URL; ComponentLink1URL: http://www.molex.com/molex/index.jsp; ComponentLink2Description: Datasheet; ComponentLink2URL: http://www.molex.com/webdocs/datasheets/pdf/en-us/5016283391_FFC_FPC_CONNECTORS.pdf; ComponentLink3Description: Package Specification; ComponentLink3URL: http://www.molex.com/pdm_docs/sd/5016283391_sd.pdf
footprint MOLX-501628-3391 (FPC Connector, 33-Leads, Right Angle, Pitch 0.3 mm, Mated Height 0.9 mm, SMT)
pins: 1, 2, 3, 4, 5, 6, 7, 8, 9, 10, 11, 12, 13, 14, 15, 16, 17, 18, 19, 20, 21, 22, 23, 24, 25, 26, 27, 28, 29, 30, 31, 32, 33, MP1, MP2

## 501628-3591
designator J?
0.3 mm Pitch Easy-On(TM) Type FPC Connector, 0.9 mm Mated Height, Right Angle, SMT, Bottom Contact, 35 Circuits, -25 to 85 degC, ELV and RoHS Compliant, Tape and Reel; Manufacturer: Molex; PartNumber: 501628-3591; Circuits (Loaded): 35; Current (Max per Contact): 0.2A; Durability (mating cycles max): 10; Entry Angle: 90degrees Angle; Mated Height: 0.90mm; Material - Metal: Copper Alloy; Material - Plating Mating: Gold; PCB Locator: No; PCB Retention: Yes; Pitch - Mating Interface: 0.30mm; Voltage (Max): 50V; PackageVersion: Rev. L, 07/2009; PackageReference: 501628-3591; PackageDescription: 35-Lead FPC Connector, Pitch 0.3 mm; Contact Position: Bottom; Number of Rows: 1; Orientation: Right Angle; Packing: Tape and Reel; Polarized to PCB: Yes; RoHS: TRUE; Stackable: No; Mounting Technology: Surface Mount; ComponentLink1Description: Manufacturer URL; ComponentLink1URL: http://www.molex.com/molex/index.jsp; ComponentLink2Description: Datasheet; ComponentLink2URL: http://www.molex.com/webdocs/datasheets/pdf/en-us/5016283591_FFC_FPC_CONNECTORS.pdf; ComponentLink3Description: Package Specification; ComponentLink3URL: http://www.molex.com/pdm_docs/sd/5016283591_sd.pdf
footprint MOLX-501628-3591 (FPC Connector, 35-Leads, Right Angle, Pitch 0.3 mm, Mated Height 0.9 mm, SMT)
pins: 1, 2, 3, 4, 5, 6, 7, 8, 9, 10, 11, 12, 13, 14, 15, 16, 17, 18, 19, 20, 21, 22, 23, 24, 25, 26, 27, 28, 29, 30, 31, 32, 33, 34, 35, MP1, MP2

## 501628-3791
designator J?
0.3 mm Pitch Easy-On(TM) Type FPC Connector, 0.9 mm Mated Height, Right Angle, SMT, Bottom Contact, 37 Circuits, -25 to 85 degC, ELV and RoHS Compliant, Tape and Reel; Manufacturer: Molex; PartNumber: 501628-3791; Circuits (Loaded): 37; Current (Max per Contact): 0.2A; Durability (mating cycles max): 10; Entry Angle: 90degrees Angle; Mated Height: 0.90mm; Material - Metal: Copper Alloy; Material - Plating Mating: Gold; PCB Locator: No; PCB Retention: Yes; Pitch - Mating Interface: 0.30mm; Voltage (Max): 50V; PackageVersion: Rev. L, 07/2009; PackageReference: 501628-3791; PackageDescription: 37-Lead FPC Connector, Pitch 0.3 mm; Contact Position: Bottom; Number of Rows: 1; Orientation: Right Angle; Packing: Tape and Reel; Polarized to PCB: Yes; RoHS: TRUE; Stackable: No; Mounting Technology: Surface Mount; ComponentLink1Description: Manufacturer URL; ComponentLink1URL: http://www.molex.com/molex/index.jsp; ComponentLink2Description: Datasheet; ComponentLink2URL: http://www.molex.com/webdocs/datasheets/pdf/en-us/5016283791_FFC_FPC_CONNECTORS.pdf; ComponentLink3Description: Package Specification; ComponentLink3URL: http://www.molex.com/pdm_docs/sd/5016283791_sd.pdf
footprint MOLX-501628-3791 (FPC Connector, 37-Leads, Right Angle, Pitch 0.3 mm, Mated Height 0.9 mm, SMT)
pins: 1, 2, 3, 4, 5, 6, 7, 8, 9, 10, 11, 12, 13, 14, 15, 16, 17, 18, 19, 20, 21, 22, 23, 24, 25, 26, 27, 28, 29, 30, 31, 32, 33, 34, 35, 36, 37, MP1, MP2

## 501628-3991
designator J?
0.3 mm Pitch Easy-On(TM) Type FPC Connector, 0.9 mm Mated Height, Right Angle, SMT, Bottom Contact, 39 Circuits, -25 to 85 degC, ELV and RoHS Compliant, Tape and Reel; Manufacturer: Molex; PartNumber: 501628-3991; Circuits (Loaded): 39; Current (Max per Contact): 0.2A; Durability (mating cycles max): 10; Entry Angle: 90degrees Angle; Mated Height: 0.90mm; Material - Metal: Copper Alloy; Material - Plating Mating: Gold; PCB Locator: No; PCB Retention: Yes; Pitch - Mating Interface: 0.30mm; Voltage (Max): 50V; PackageVersion: Rev. L, 07/2009; PackageReference: 501628-3991; PackageDescription: 39-Lead FPC Connector, Pitch 0.3 mm; Contact Position: Bottom; Number of Rows: 1; Orientation: Right Angle; Packing: Tape and Reel; Polarized to PCB: Yes; RoHS: TRUE; Stackable: No; Mounting Technology: Surface Mount; ComponentLink1Description: Manufacturer URL; ComponentLink1URL: http://www.molex.com/molex/index.jsp; ComponentLink2Description: Datasheet; ComponentLink2URL: http://www.molex.com/webdocs/datasheets/pdf/en-us/5016283991_FFC_FPC_CONNECTORS.pdf; ComponentLink3Description: Package Specification; ComponentLink3URL: http://www.molex.com/pdm_docs/sd/5016283991_sd.pdf
footprint MOLX-501628-3991 (FPC Connector, 39-Leads, Right Angle, Pitch 0.3 mm, Mated Height 0.9 mm, SMT)
pins: 1, 2, 3, 4, 5, 6, 7, 8, 9, 10, 11, 12, 13, 14, 15, 16, 17, 18, 19, 20, 21, 22, 23, 24, 25, 26, 27, 28, 29, 30, 31, 32, 33, 34, 35, 36, 37, 38, 39, MP1, MP2

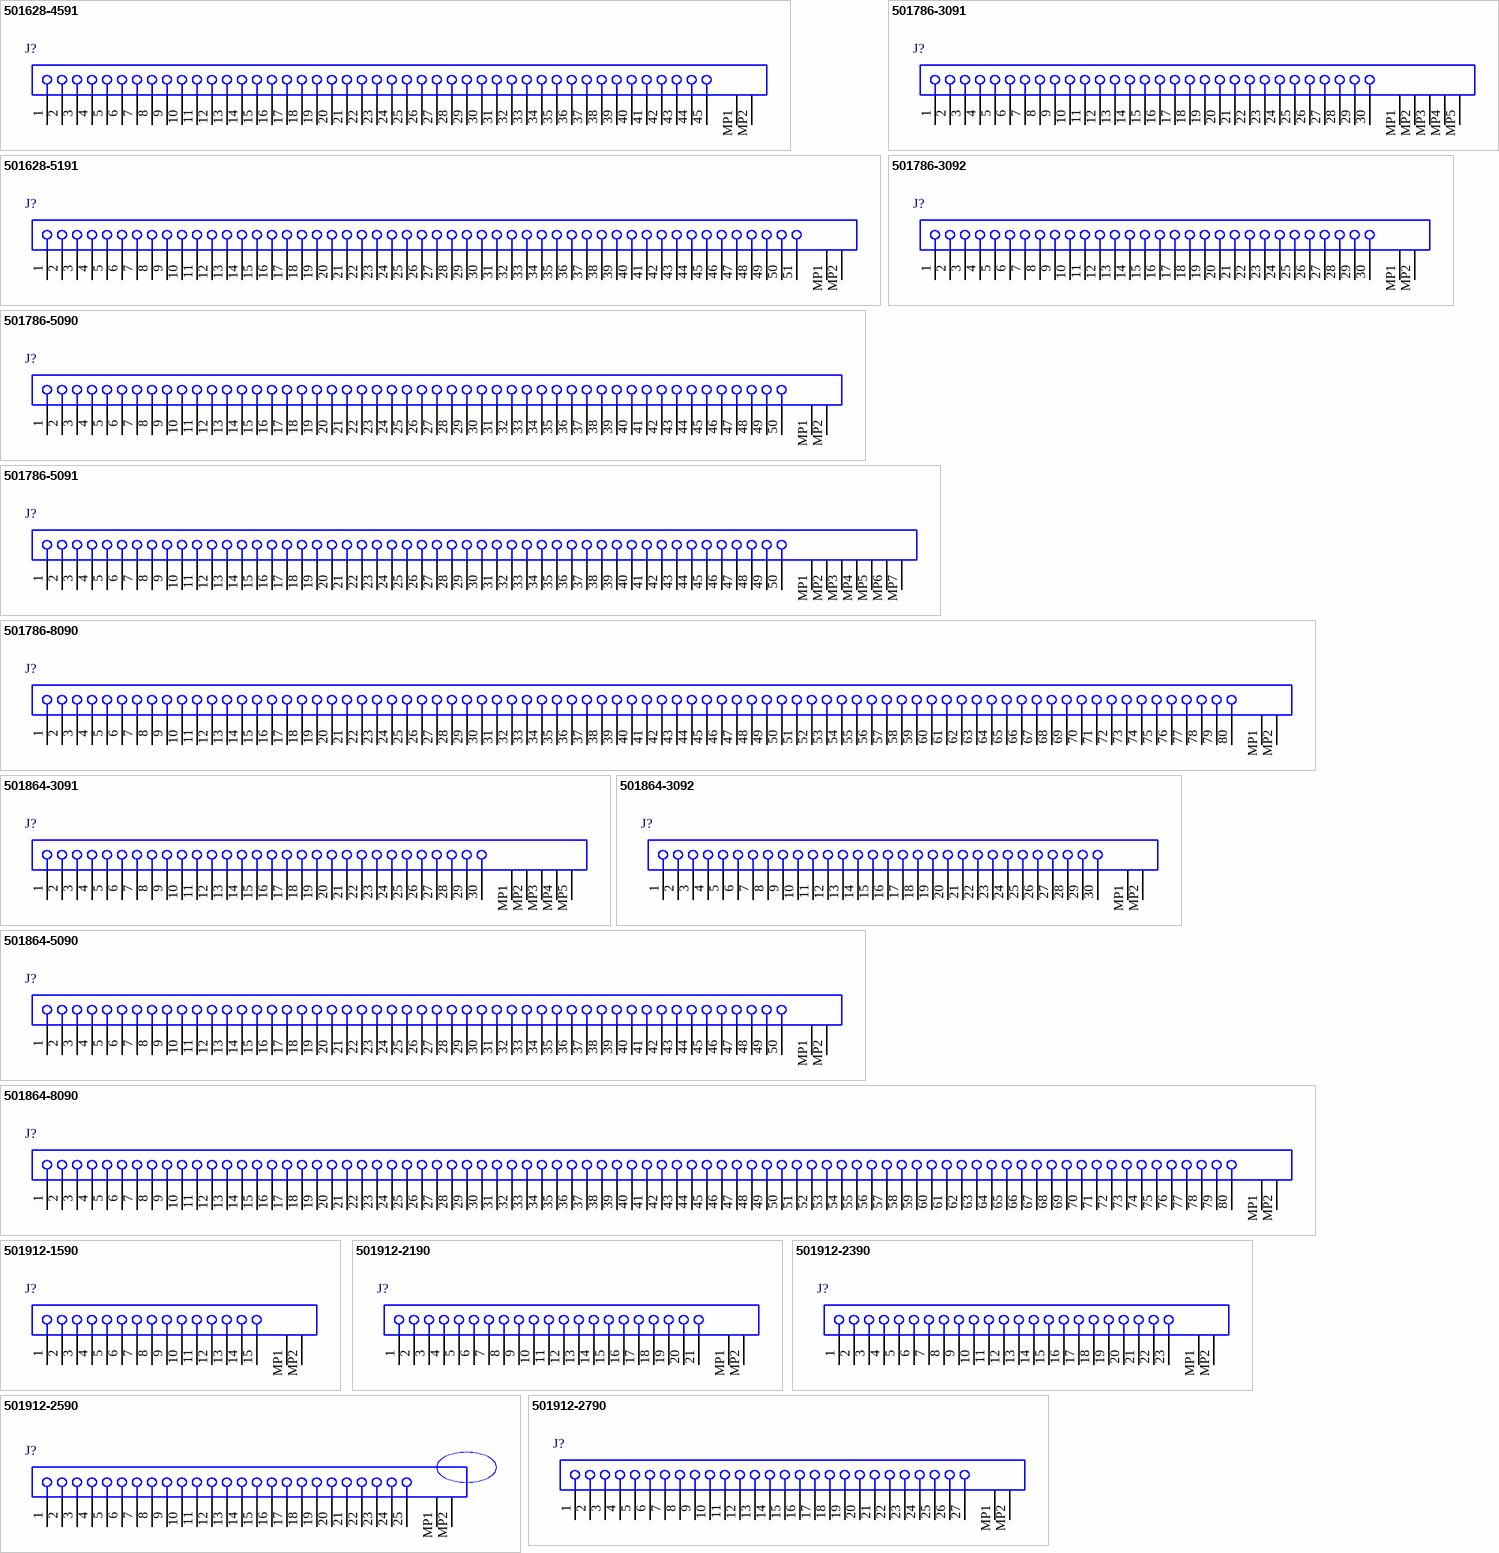
[diagram p16: symbols 501628-4591 to 501912-2790]

## 501628-4591
designator J?
0.3 mm Pitch Easy-On(TM) Type FPC Connector, 0.9 mm Mated Height, Right Angle, SMT, Bottom Contact, 45 Circuits, -25 to 85 degC, ELV and RoHS Compliant, Tape and Reel; Manufacturer: Molex; PartNumber: 501628-4591; Circuits (Loaded): 45; Current (Max per Contact): 0.2A; Durability (mating cycles max): 10; Entry Angle: 90degrees Angle; Mated Height: 0.90mm; Material - Metal: Copper Alloy; Material - Plating Mating: Gold; PCB Locator: No; PCB Retention: Yes; Pitch - Mating Interface: 0.30mm; Voltage (Max): 50V; PackageVersion: Rev. L, 07/2009; PackageReference: 501628-4591; PackageDescription: 45-Lead FPC Connector, Pitch 0.3 mm; Contact Position: Bottom; Number of Rows: 1; Orientation: Right Angle; Packing: Tape and Reel; Polarized to PCB: Yes; RoHS: TRUE; Stackable: No; Mounting Technology: Surface Mount; ComponentLink1Description: Manufacturer URL; ComponentLink1URL: http://www.molex.com/molex/index.jsp; ComponentLink2Description: Datasheet; ComponentLink2URL: http://www.molex.com/webdocs/datasheets/pdf/en-us/5016284591_FFC_FPC_CONNECTORS.pdf; ComponentLink3Description: Package Specification; ComponentLink3URL: http://www.molex.com/pdm_docs/sd/5016284591_sd.pdf
footprint MOLX-501628-4591 (FPC Connector, 45-Leads, Right Angle, Pitch 0.3 mm, Mated Height 0.9 mm, SMT)
pins: 1, 2, 3, 4, 5, 6, 7, 8, 9, 10, 11, 12, 13, 14, 15, 16, 17, 18, 19, 20, 21, 22, 23, 24, 25, 26, 27, 28, 29, 30, 31, 32, 33, 34, 35, 36, 37, 38, 39, 40, 41, 42, 43, 44, 45, MP1, MP2

## 501628-5191
designator J?
0.3 mm Pitch Easy-On(TM) Type FPC Connector, 0.9 mm Mated Height, Right Angle, SMT, Bottom Contact, 51 Circuits, -25 to 85 degC, ELV and RoHS Compliant, Tape and Reel; Manufacturer: Molex; PartNumber: 501628-5191; Circuits (Loaded): 51; Current (Max per Contact): 0.2A; Durability (mating cycles max): 10; Entry Angle: 90degrees Angle; Mated Height: 0.90mm; Material - Metal: Copper Alloy; Material - Plating Mating: Gold; PCB Locator: No; PCB Retention: Yes; Pitch - Mating Interface: 0.30mm; Voltage (Max): 50V; PackageVersion: Rev. L, 07/2009; PackageReference: 501628-5191; PackageDescription: 51-Lead FPC Connector, Pitch 0.3 mm; Contact Position: Bottom; Number of Rows: 1; Orientation: Right Angle; Packing: Tape and Reel; Polarized to PCB: Yes; RoHS: TRUE; Stackable: No; Mounting Technology: Surface Mount; ComponentLink1Description: Manufacturer URL; ComponentLink1URL: http://www.molex.com/molex/index.jsp; ComponentLink2Description: Datasheet; ComponentLink2URL: http://www.molex.com/webdocs/datasheets/pdf/en-us/5016285191_FFC_FPC_CONNECTORS.pdf; ComponentLink3Description: Package Specification; ComponentLink3URL: http://www.molex.com/pdm_docs/sd/5016285191_sd.pdf
footprint MOLX-501628-5191 (FPC Connector, 51-Leads, Right Angle, Pitch 0.3 mm, Mated Height 0.9 mm, SMT)
pins: 1, 2, 3, 4, 5, 6, 7, 8, 9, 10, 11, 12, 13, 14, 15, 16, 17, 18, 19, 20, 21, 22, 23, 24, 25, 26, 27, 28, 29, 30, 31, 32, 33, 34, 35, 36, 37, 38, 39, 40, 41, 42, 43, 44, 45, 46, 47, 48, 49, 50, 51, MP1, MP2

## 501786-3091
designator J?
0.5 mm Pitch Easy-On(TM) Type FFC Connector, 8.95 mm Mated Height, Vertical, SMT, 30 Circuits, -40 to 85 degC, ELV and RoHS Compliant, Tape and Reel; Manufacturer: Molex; PartNumber: 501786-3091; Circuits (Loaded): 30; Current (Max per Contact): 0.5A; Durability (mating cycles max): 20; Mated Height: 8.95mm; Material - Metal: Copper Alloy; Material - Plating Mating: Gold; PCB Locator: Yes; Pitch - Mating Interface: 0.50mm; Stackable: No; Voltage (Max): 50V AC (RMS)/DC; PackageVersion: Rev. E, 10/2009; PackageReference: 501786-3091; PackageDescription: 30-Lead FFC Connector, Pitch 0.5 mm; Contact Position: N/A; Entry Angle: Vertical; Material - Plating Termination: Gold; Number of Rows: 1; Orientation: Vertical; Packing: Tape and Reel; PCB Retention: Yes; Polarized to PCB: Yes; RoHS: TRUE; Mounting Technology: Surface Mount; ComponentLink1Description: Manufacturer URL; ComponentLink1URL: http://www.molex.com/molex/index.jsp; ComponentLink2Description: Datasheet; ComponentLink2URL: http://www.molex.com/webdocs/datasheets/pdf/en-us/5017863091_FFC_FPC_CONNECTORS.pdf; ComponentLink3Description: Package Specification; ComponentLink3URL: http://www.molex.com/pdm_docs/sd/5017863091_sd.pdf
footprint MOLX-501786-3091 (FFC Connector, 30-Leads, Vertical, Pitch 0.5 mm, Mated Height 8.95 mm, SMT)
pins: 1, 2, 3, 4, 5, 6, 7, 8, 9, 10, 11, 12, 13, 14, 15, 16, 17, 18, 19, 20, 21, 22, 23, 24, 25, 26, 27, 28, 29, 30, MP1, MP2, MP3, MP4, MP5

## 501786-3092
designator J?
0.5 mm Pitch Easy-On(TM) Type FFC Connector, 8.95 mm Mated Height, Vertical, SMT, 30 Circuits, -40 to 85 degC, ELV and RoHS Compliant, Tape and Reel; Manufacturer: Molex; PartNumber: 501786-3092; Circuits (Loaded): 30; Current (Max per Contact): 0.5A; Durability (mating cycles max): 20; Mated Height: 8.95mm; Material - Metal: Copper Alloy; Material - Plating Mating: Gold; PCB Locator: Yes; Pitch - Mating Interface: 0.50mm; Stackable: No; Voltage (Max): 50V AC (RMS)/DC; PackageVersion: Rev. A, 10/2009; PackageReference: 501786-3092; PackageDescription: 30-Lead FFC Connector, Pitch 0.5 mm; Contact Position: N/A; Entry Angle: Vertical; Material - Plating Termination: Gold; Number of Rows: 1; Orientation: Vertical; Packing: Tape and Reel; PCB Retention: Yes; Polarized to PCB: Yes; RoHS: TRUE; Mounting Technology: Surface Mount; ComponentLink1Description: Manufacturer URL; ComponentLink1URL: http://www.molex.com/molex/index.jsp; ComponentLink2Description: Datasheet; ComponentLink2URL: http://www.molex.com/webdocs/datasheets/pdf/en-us/5017863092_FFC_FPC_CONNECTORS.pdf; ComponentLink3Description: Package Specification; ComponentLink3URL: http://www.molex.com/pdm_docs/sd/5017863092_sd.pdf
footprint MOLX-501786-3092 (FFC Connector, 30-Leads, Vertical, Pitch 0.5 mm, Mated Height 8.95 mm, SMT)
pins: 1, 2, 3, 4, 5, 6, 7, 8, 9, 10, 11, 12, 13, 14, 15, 16, 17, 18, 19, 20, 21, 22, 23, 24, 25, 26, 27, 28, 29, 30, MP1, MP2

## 501786-5090
designator J?
0.5 mm Pitch Easy-On(TM) Type FFC Connector, 8.95 mm Mated Height, Vertical, SMT, 50 Circuits, -40 to 85 degC, ELV and RoHS Compliant, Tape and Reel; Manufacturer: Molex; PartNumber: 501786-5090; Circuits (Loaded): 50; Current (Max per Contact): 0.5A; Durability (mating cycles max): 20; Mated Height: 8.95mm; Material - Metal: Copper Alloy; Material - Plating Mating: Gold; PCB Locator: Yes; Pitch - Mating Interface: 0.50mm; Stackable: No; Voltage (Max): 50V AC (RMS)/DC; PackageVersion: Rev. A, 05/2010; PackageReference: 501786-5090; PackageDescription: 50-Lead FFC Connector, Pitch 0.5 mm; Contact Position: N/A; Entry Angle: Vertical; Material - Plating Termination: Gold; Number of Rows: 1; Orientation: Vertical; Packing: Tape and Reel; PCB Retention: Yes; Polarized to PCB: Yes; RoHS: TRUE; Mounting Technology: Surface Mount; ComponentLink1Description: Manufacturer URL; ComponentLink1URL: http://www.molex.com/molex/index.jsp; ComponentLink2Description: Datasheet; ComponentLink2URL: http://www.molex.com/webdocs/datasheets/pdf/en-us/5017865090_FFC_FPC_CONNECTORS.pdf; ComponentLink3Description: Package Specification; ComponentLink3URL: http://www.molex.com/pdm_docs/sd/5017865090_sd.pdf
footprint MOLX-501786-5090 (FFC Connector, 50-Leads, Vertical, Pitch 0.5 mm, Mated Height 8.95 mm, SMT)
pins: 1, 2, 3, 4, 5, 6, 7, 8, 9, 10, 11, 12, 13, 14, 15, 16, 17, 18, 19, 20, 21, 22, 23, 24, 25, 26, 27, 28, 29, 30, 31, 32, 33, 34, 35, 36, 37, 38, 39, 40, 41, 42, 43, 44, 45, 46, 47, 48, 49, 50, MP1, MP2

## 501786-5091
designator J?
0.5 mm Pitch Easy-On(TM) Type FFC Connector, 8.95 mm Mated Height, Vertical, SMT, 50 Circuits, -40 to 85 degC, ELV and RoHS Compliant, Tape and Reel; Manufacturer: Molex; PartNumber: 501786-5091; Circuits (Loaded): 50; Current (Max per Contact): 0.5A; Durability (mating cycles max): 20; Mated Height: 8.95mm; Material - Metal: Copper Alloy; Material - Plating Mating: Gold; PCB Locator: Yes; Pitch - Mating Interface: 0.50mm; Stackable: No; Voltage (Max): 50V AC (RMS)/DC; PackageVersion: Rev. A, 10/2009; PackageReference: 501786-5091; PackageDescription: 50-Lead FFC Connector, Pitch 0.5 mm; Contact Position: N/A; Entry Angle: Vertical; Material - Plating Termination: Gold; Number of Rows: 1; Orientation: Vertical; Packing: Tape and Reel; PCB Retention: Yes; Polarized to PCB: Yes; RoHS: TRUE; Mounting Technology: Surface Mount; ComponentLink1Description: Manufacturer URL; ComponentLink1URL: http://www.molex.com/molex/index.jsp; ComponentLink2Description: Datasheet; ComponentLink2URL: http://www.molex.com/webdocs/datasheets/pdf/en-us/5017865091_FFC_FPC_CONNECTORS.pdf; ComponentLink3Description: Package Specification; ComponentLink3URL: http://www.molex.com/pdm_docs/sd/5017865091_sd.pdf
footprint MOLX-501786-5091 (FFC Connector, 50-Leads, Vertical, Pitch 0.5 mm, Mated Height 8.95 mm, SMT)
pins: 1, 2, 3, 4, 5, 6, 7, 8, 9, 10, 11, 12, 13, 14, 15, 16, 17, 18, 19, 20, 21, 22, 23, 24, 25, 26, 27, 28, 29, 30, 31, 32, 33, 34, 35, 36, 37, 38, 39, 40, 41, 42, 43, 44, 45, 46, 47, 48, 49, 50, MP1, MP2, MP3, MP4, MP5, MP6, MP7

## 501786-8090
designator J?
0.5 mm Pitch Easy-On(TM) Type FFC Connector, 8.95 mm Mated Height, Vertical, SMT, 80 Circuits, -40 to 85 degC, ELV and RoHS Compliant, Tape and Reel; Manufacturer: Molex; PartNumber: 501786-8090; Circuits (Loaded): 80; Current (Max per Contact): 0.5A; Durability (mating cycles max): 20; Mated Height: 8.95mm; Material - Metal: Copper Alloy; Material - Plating Mating: Gold; PCB Locator: Yes; Pitch - Mating Interface: 0.50mm; Stackable: No; Voltage (Max): 50V AC (RMS)/DC; PackageVersion: Rev. A, 05/2010; PackageReference: 501786-8090; PackageDescription: 80-Lead FFC Connector, Pitch 0.5 mm; Contact Position: N/A; Entry Angle: Vertical; Material - Plating Termination: Gold; Number of Rows: 1; Orientation: Vertical; Packing: Tape and Reel; PCB Retention: Yes; Polarized to PCB: Yes; RoHS: TRUE; Mounting Technology: Surface Mount; ComponentLink1Description: Manufacturer URL; ComponentLink1URL: http://www.molex.com/molex/index.jsp; ComponentLink2Description: Datasheet; ComponentLink2URL: http://www.molex.com/webdocs/datasheets/pdf/en-us/5017868090_FFC_FPC_CONNECTORS.pdf; ComponentLink3Description: Package Specification; ComponentLink3URL: http://www.molex.com/pdm_docs/sd/5017868090_sd.pdf
footprint MOLX-501786-8090 (FFC Connector, 80-Leads, Vertical, Pitch 0.5 mm, Mated Height 8.95 mm, SMT)
pins: 1, 2, 3, 4, 5, 6, 7, 8, 9, 10, 11, 12, 13, 14, 15, 16, 17, 18, 19, 20, 21, 22, 23, 24, 25, 26, 27, 28, 29, 30, 31, 32, 33, 34, 35, 36, 37, 38, 39, 40, 41, 42, 43, 44, 45, 46, 47, 48, 49, 50, 51, 52, 53, 54, 55, 56, 57, 58, 59, 60, 61, 62, 63, 64, 65, 66, 67, 68, 69, 70, 71, 72, 73, 74, 75, 76, 77, 78, 79, 80, MP1, MP2

## 501864-3091
designator J?
0.5 mm Pitch Easy-On(TM) Type FFC Connector, 4.85 mm Mated Height, Right Angle, SMT, Bottom Contact, 30 Circuits, -40 to 85 degC, ELV and RoHS Compliant, Tape and Reel; Manufacturer: Molex; PartNumber: 501864-3091; Circuits (Loaded): 30; Current (Max per Contact): 0.5A; Durability (mating cycles max): 20; Entry Angle: 90degrees Angle; Mated Height: 4.85mm; Material - Metal: Phosphor Bronze; Material - Plating Mating: Gold; PCB Locator: Yes; Pitch - Mating Interface: 0.50mm; Stackable: No; Voltage (Max): 50V AC (RMS)/DC; PackageVersion: Rev. C, 09/2013; PackageReference: 501864-3091; PackageDescription: 30-Lead FFC Connector, Pitch 0.5 mm; Contact Position: Bottom; Material - Plating Termination: Gold; Number of Rows: 1; Orientation: Right Angle; Packing: Tape and Reel; PCB Retention: Yes; Polarized to PCB: Yes; RoHS: TRUE; Mounting Technology: Surface Mount; ComponentLink1Description: Manufacturer URL; ComponentLink1URL: http://www.molex.com/molex/index.jsp; ComponentLink2Description: Datasheet; ComponentLink2URL: http://www.molex.com/webdocs/datasheets/pdf/en-us/5018643091_FFC_FPC_CONNECTORS.pdf; ComponentLink3Description: Package Specification; ComponentLink3URL: http://www.molex.com/pdm_docs/sd/5018643091_sd.pdf
footprint MOLX-501864-3091 (FFC Connector, 30-Leads, Right Angle, Pitch 0.5 mm, Mated Height 4.85 mm, SMT)
pins: 1, 2, 3, 4, 5, 6, 7, 8, 9, 10, 11, 12, 13, 14, 15, 16, 17, 18, 19, 20, 21, 22, 23, 24, 25, 26, 27, 28, 29, 30, MP1, MP2, MP3, MP4, MP5

## 501864-3092
designator J?
0.5 mm Pitch Easy-On(TM) Type FFC Connector, 4.85 mm Mated Height, Right Angle, SMT, Bottom Contact, 30 Circuits, -40 to 85 degC, ELV and RoHS Compliant, Tape and Reel; Manufacturer: Molex; PartNumber: 501864-3092; Circuits (Loaded): 30; Current (Max per Contact): 0.5A; Durability (mating cycles max): 20; Entry Angle: 90degrees Angle; Mated Height: 4.85mm; Material - Metal: Copper Alloy; Material - Plating Mating: Gold; PCB Locator: Yes; Pitch - Mating Interface: 0.50mm; Stackable: No; Voltage (Max): 50V AC (RMS)/DC; PackageVersion: Rev. A, 09/2013; PackageReference: 501864-3092; PackageDescription: 30-Lead FFC Connector, Pitch 0.5 mm; Contact Position: Bottom; Material - Plating Termination: Gold; Number of Rows: 1; Orientation: Right Angle; Packing: Tape and Reel; PCB Retention: Yes; Polarized to PCB: Yes; RoHS: TRUE; Mounting Technology: Surface Mount; ComponentLink1Description: Manufacturer URL; ComponentLink1URL: http://www.molex.com/molex/index.jsp; ComponentLink2Description: Datasheet; ComponentLink2URL: http://www.molex.com/webdocs/datasheets/pdf/en-us/5018643092_FFC_FPC_CONNECTORS.pdf; ComponentLink3Description: Package Specification; ComponentLink3URL: http://www.molex.com/pdm_docs/sd/5018643092_sd.pdf
footprint MOLX-501864-3092 (FFC Connector, 30-Leads, Right Angle, Pitch 0.5 mm, Mated Height 4.85 mm, SMT)
pins: 1, 2, 3, 4, 5, 6, 7, 8, 9, 10, 11, 12, 13, 14, 15, 16, 17, 18, 19, 20, 21, 22, 23, 24, 25, 26, 27, 28, 29, 30, MP1, MP2